# Altium schematic symbol library SCH - MCU - NUVOTON - NUVOTON NUC029LGE.SchLib: 1 symbol
Pins are listed as number, name and electrical type; pins without a type are passive.

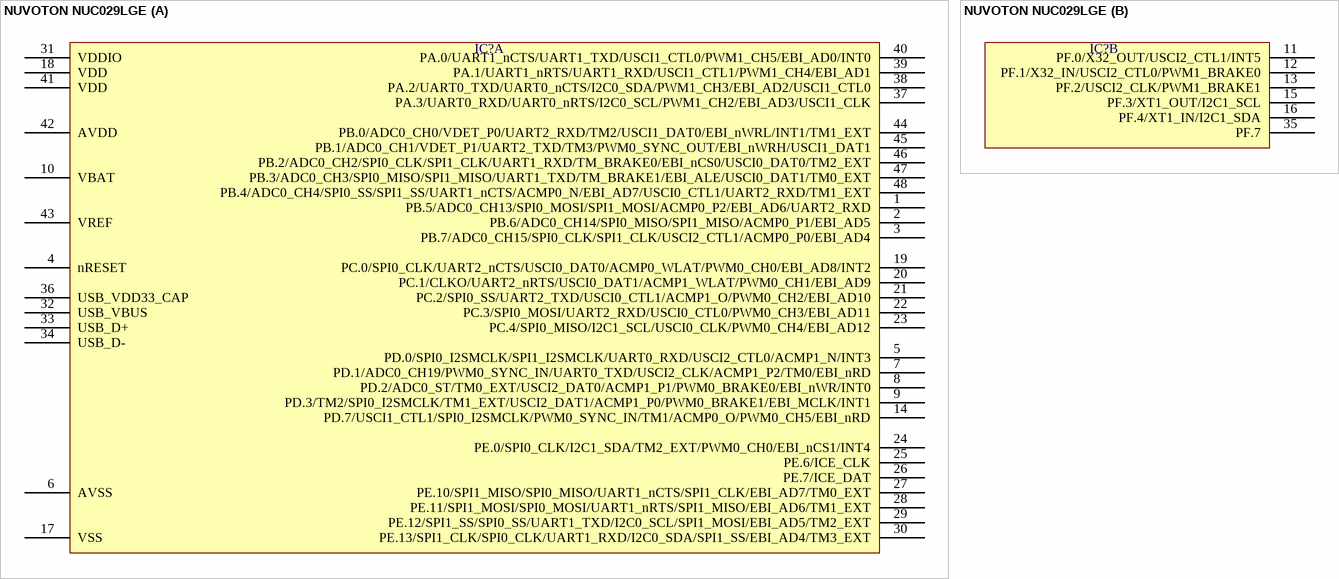
[diagram p0: symbol NUVOTON NUC029LGE]

## NUVOTON NUC029LGE
designator IC?  (value not drawn)
part A pins: 1 PB.5/ADC0_CH13/SPI0_MOSI/SPI1_MOSI/ACMP0_P2/EBI_AD6/UART2_RXD, 2 PB.6/ADC0_CH14/SPI0_MISO/SPI1_MISO/ACMP0_P1/EBI_AD5, 3 PB.7/ADC0_CH15/SPI0_CLK/SPI1_CLK/USCI2_CTL1/ACMP0_P0/EBI_AD4, 4 nRESET, 5 PD.0/SPI0_I2SMCLK/SPI1_I2SMCLK/UART0_RXD/USCI2_CTL0/ACMP1_N/INT3, 6 AVSS, 7 PD.1/ADC0_CH19/PWM0_SYNC_IN/UART0_TXD/USCI2_CLK/ACMP1_P2/TM0/EBI_nRD, 8 PD.2/ADC0_ST/TM0_EXT/USCI2_DAT0/ACMP1_P1/PWM0_BRAKE0/EBI_nWR/INT0, 9 PD.3/TM2/SPI0_I2SMCLK/TM1_EXT/USCI2_DAT1/ACMP1_P0/PWM0_BRAKE1/EBI_MCLK/INT1, 10 VBAT, 14 PD.7/USCI1_CTL1/SPI0_I2SMCLK/PWM0_SYNC_IN/TM1/ACMP0_O/PWM0_CH5/EBI_nRD, 17 VSS, 18 VDD, 19 PC.0/SPI0_CLK/UART2_nCTS/USCI0_DAT0/ACMP0_WLAT/PWM0_CH0/EBI_AD8/INT2, 20 PC.1/CLKO/UART2_nRTS/USCI0_DAT1/ACMP1_WLAT/PWM0_CH1/EBI_AD9, 21 PC.2/SPI0_SS/UART2_TXD/USCI0_CTL1/ACMP1_O/PWM0_CH2/EBI_AD10, 22 PC.3/SPI0_MOSI/UART2_RXD/USCI0_CTL0/PWM0_CH3/EBI_AD11, 23 PC.4/SPI0_MISO/I2C1_SCL/USCI0_CLK/PWM0_CH4/EBI_AD12, 24 PE.0/SPI0_CLK/I2C1_SDA/TM2_EXT/PWM0_CH0/EBI_nCS1/INT4, 25 PE.6/ICE_CLK, 26 PE.7/ICE_DAT, 27 PE.10/SPI1_MISO/SPI0_MISO/UART1_nCTS/SPI1_CLK/EBI_AD7/TM0_EXT, 28 PE.11/SPI1_MOSI/SPI0_MOSI/UART1_nRTS/SPI1_MISO/EBI_AD6/TM1_EXT, 29 PE.12/SPI1_SS/SPI0_SS/UART1_TXD/I2C0_SCL/SPI1_MOSI/EBI_AD5/TM2_EXT, 30 PE.13/SPI1_CLK/SPI0_CLK/UART1_RXD/I2C0_SDA/SPI1_SS/EBI_AD4/TM3_EXT, 31 VDDIO, 32 USB_VBUS, 33 USB_D+, 34 USB_D-, 36 USB_VDD33_CAP, 37 PA.3/UART0_RXD/UART0_nRTS/I2C0_SCL/PWM1_CH2/EBI_AD3/USCI1_CLK, 38 PA.2/UART0_TXD/UART0_nCTS/I2C0_SDA/PWM1_CH3/EBI_AD2/USCI1_CTL0, 39 PA.1/UART1_nRTS/UART1_RXD/USCI1_CTL1/PWM1_CH4/EBI_AD1, 40 PA.0/UART1_nCTS/UART1_TXD/USCI1_CTL0/PWM1_CH5/EBI_AD0/INT0, 41 VDD, 42 AVDD, 43 VREF, 44 PB.0/ADC0_CH0/VDET_P0/UART2_RXD/TM2/USCI1_DAT0/EBI_nWRL/INT1/TM1_EXT, 45 PB.1/ADC0_CH1/VDET_P1/UART2_TXD/TM3/PWM0_SYNC_OUT/EBI_nWRH/USCI1_DAT1, 46 PB.2/ADC0_CH2/SPI0_CLK/SPI1_CLK/UART1_RXD/TM_BRAKE0/EBI_nCS0/USCI0_DAT0/TM2_EXT, 47 PB.3/ADC0_CH3/SPI0_MISO/SPI1_MISO/UART1_TXD/TM_BRAKE1/EBI_ALE/USCI0_DAT1/TM0_EXT, 48 PB.4/ADC0_CH4/SPI0_SS/SPI1_SS/UART1_nCTS/ACMP0_N/EBI_AD7/USCI0_CTL1/UART2_RXD/TM1_EXT
part B pins: 11 PF.0/X32_OUT/USCI2_CTL1/INT5, 12 PF.1/X32_IN/USCI2_CTL0/PWM1_BRAKE0, 13 PF.2/USCI2_CLK/PWM1_BRAKE1, 15 PF.3/XT1_OUT/I2C1_SCL, 16 PF.4/XT1_IN/I2C1_SDA, 35 PF.7